# Altium footprint library 2.90-TI标准封装.PcbLib: 35 footprints (part 1 of 3)
Each footprint in its own frame and in the unit in brackets; x right, y up, seen from the top. Pads: shape width x height; smd on the part's side, far side on the other; paste and mask are expansions set on the pad; w line width, h text height; cw(c..) or ccw(c..) is an arc to the next point about the centre after c.
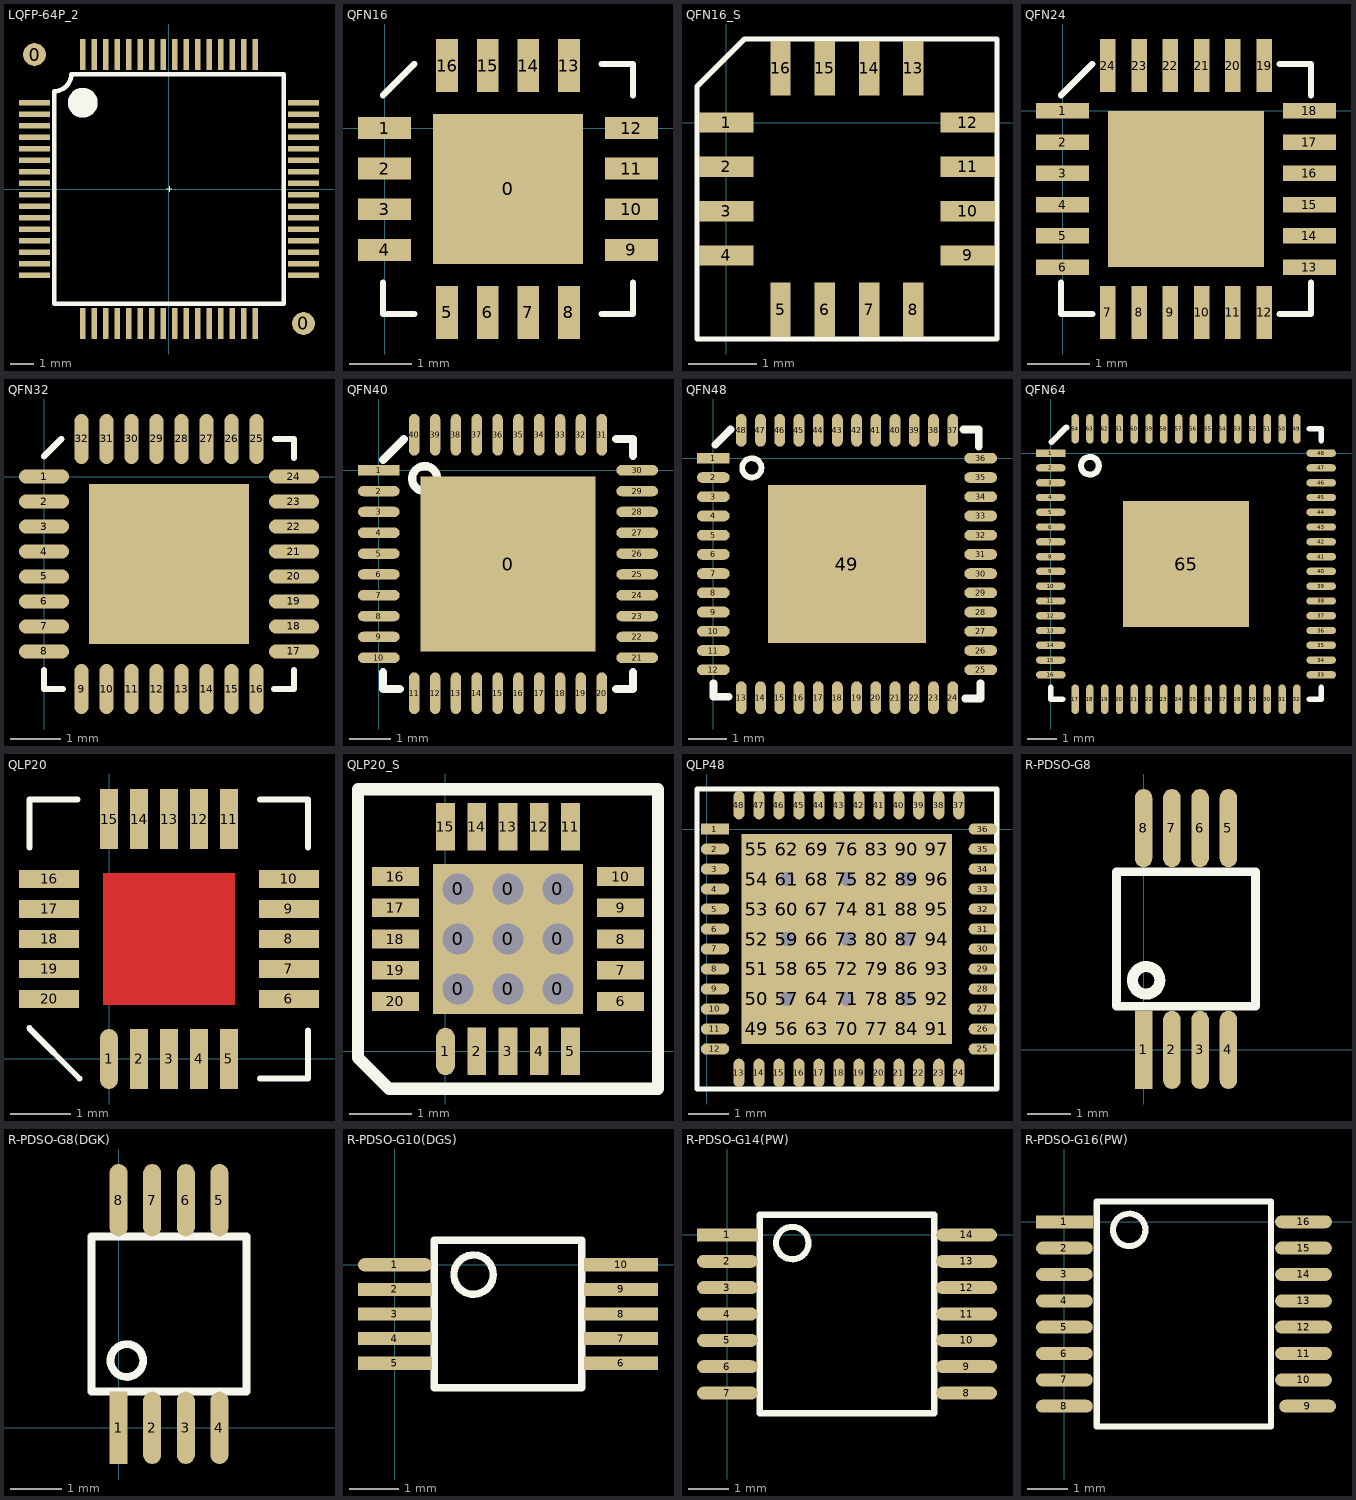
[diagram p0: the footprints below, top view; thin cyan lines are the x and y axes]

## LQFP-64P_2 [mm] "[ PCBѧϰȺ514746572 ]"
pads (66):
  round 1 smd: 0(-5.85,5.85) 0(5.85,-5.85)
  rect 1.35x0.25 smd: 1(-5.85,3.75) 2(-5.85,3.25) 3(-5.85,2.75) 4(-5.85,2.25) 5(-5.85,1.75) 6(-5.85,1.25) 7(-5.85,0.75) 8(-5.85,0.25) 9(-5.85,-0.25) 10(-5.85,-0.75) 11(-5.85,-1.25) 12(-5.85,-1.75) 13(-5.85,-2.25) 14(-5.85,-2.75) 15(-5.85,-3.25) 16(-5.85,-3.75) 33(5.85,-3.75) 34(5.85,-3.25) 35(5.85,-2.75) 36(5.85,-2.25) 37(5.85,-1.75) 38(5.85,-1.25) 39(5.85,-0.75) 40(5.85,-0.25) 41(5.85,0.25) 42(5.85,0.75) 43(5.85,1.25) 44(5.85,1.75) 45(5.85,2.25) 46(5.85,2.75) 47(5.85,3.25) 48(5.85,3.75)
  rect 0.25x1.35 smd: 17(-3.75,-5.85) 18(-3.25,-5.85) 19(-2.75,-5.85) 20(-2.25,-5.85) 21(-1.75,-5.85) 22(-1.25,-5.85) 23(-0.75,-5.85) 24(-0.25,-5.85) 25(0.25,-5.85) 26(0.75,-5.85) 27(1.25,-5.85) 28(1.75,-5.85) 29(2.25,-5.85) 30(2.75,-5.85) 31(3.25,-5.85) 32(3.75,-5.85) 49(3.75,5.85) 50(3.25,5.85) 51(2.75,5.85) 52(2.25,5.85) 53(1.75,5.85) 54(1.25,5.85) 55(0.75,5.85) 56(0.25,5.85) 57(-0.25,5.85) 58(-0.75,5.85) 59(-1.25,5.85) 60(-1.75,5.85) 61(-2.25,5.85) 62(-2.75,5.85) 63(-3.25,5.85) 64(-3.75,5.85)
Top Overlay:
  circle w0.7: c-3.75,3.75 r0.3
  lines w0.001: -0.12,0 0.12,0 ; 0,-0.12 0,0.12
  lines w0.2: -5,-5 5,-5 5,5 -4.25,5 cw(c-5,5) -5,4.25 -5,-5

## QFN16 [mm] "[ PCBѧϰȺ514746572 ]"
pads (17):
  rect 2.4x2.4 smd: 0(1.975,-0.975)
  rect 0.85x0.35 smd: 1(0,0) 2(0,-0.65) 3(0,-1.3) 4(0,-1.95) 9(3.95,-1.95) 10(3.95,-1.3) 11(3.95,-0.65) 12(3.95,0)
  rect 0.35x0.85 smd: 5(1,-2.95) 6(1.65,-2.95) 7(2.3,-2.95) 8(2.95,-2.95) 13(2.95,1) 14(2.3,1) 15(1.65,1) 16(1,1)
Top Overlay:
  lines w0.1: -0.025,-2.475 -0.025,-2.975 0.475,-2.975 ; -0.025,0.525 0.475,1.025 ; 3.475,-2.975 3.975,-2.975 3.975,-2.475 ; 3.475,1.025 3.975,1.025 3.975,0.525

## QFN16_S [mm] "[ PCBѧϰȺ514746572 ]"
pads (16):
  rect 0.8x0.3 smd: 1(0,0) 2(0,-0.65) 3(0,-1.3) 4(0,-1.95) 9(3.542,-1.95) 10(3.542,-1.3) 11(3.542,-0.65) 12(3.542,0)
  rect 0.3x0.8 smd: 5(0.795,-2.744) 6(1.445,-2.744) 7(2.095,-2.744) 8(2.745,-2.744) 13(2.745,0.797) 14(2.095,0.797) 15(1.445,0.797) 16(0.795,0.797)
Top Overlay:
  lines w0.076: -0.43,-3.175 -0.43,0.528 0.268,1.225 3.97,1.225 3.97,-3.175 -0.43,-3.175

## QFN24 [mm] "[ PCBѧϰȺ514746572 ]"
pads (25):
  rect 0.85x0.25 smd: 1(0,0) 2(0,-0.5) 3(0,-1) 4(0,-1.5) 5(0,-2) 6(0,-2.5) 13(3.95,-2.5) 14(3.95,-2) 15(3.95,-1.5) 16(3.95,-1) 17(3.95,-0.5) 18(3.95,0)
  rect 0.25x0.85 smd: 7(0.725,-3.225) 8(1.225,-3.225) 9(1.725,-3.225) 10(2.225,-3.225) 11(2.725,-3.225) 12(3.225,-3.225) 19(3.225,0.725) 20(2.725,0.725) 21(2.225,0.725) 22(1.725,0.725) 23(1.225,0.725) 24(0.725,0.725)
  rect 2.5x2.5 smd: ""(1.975,-1.25)
Top Overlay:
  lines w0.1: -0.025,-2.75 -0.025,-3.25 0.475,-3.25 ; -0.025,0.25 0.475,0.75 ; 3.475,-3.25 3.975,-3.25 3.975,-2.75 ; 3.475,0.75 3.975,0.75 3.975,0.25

## QFN32 [mm] "[ PCBѧϰȺ514746572 ]"
pads (33):
  oval 1x0.28 smd: 1(0,0) 2(0,-0.5) 3(0,-1) 4(0,-1.5) 5(0,-2) 6(0,-2.5) 7(0,-3) 8(0,-3.5) 17(5,-3.5) 18(5,-3) 19(5,-2.5) 20(5,-2) 21(5,-1.5) 22(5,-1) 23(5,-0.5) 24(5,0)
  oval 0.28x1 smd: 9(0.75,-4.25) 10(1.25,-4.25) 11(1.75,-4.25) 12(2.25,-4.25) 13(2.75,-4.25) 14(3.25,-4.25) 15(3.75,-4.25) 16(4.25,-4.25) 25(4.25,0.75) 26(3.75,0.75) 27(3.25,0.75) 28(2.75,0.75) 29(2.25,0.75) 30(1.75,0.75) 31(1.25,0.75) 32(0.75,0.75)
  rect 3.2x3.2 smd: ""(2.5,-1.75)
Top Overlay:
  lines w0.127: 0,-3.869 0,-4.25 0.381,-4.25 ; 0,0.404 0.346,0.75 ; 4.6,-4.25 5,-4.25 5,-3.869 ; 4.619,0.75 5,0.75 5,0.369

## QFN40 [mm] "[ PCBѧϰȺ514746572 ]"
pads (41):
  rect 4.2x4.2 smd: 0(3.1,-2.25)
  rect 1x0.25 smd: 1(0,0)
  oval 1x0.25 smd: 2(0,-0.5) 3(0,-1) 4(0,-1.5) 5(0,-2) 6(0,-2.5) 7(0,-3) 8(0,-3.5) 9(0,-4) 10(0,-4.5) 21(6.2,-4.5) 22(6.2,-4) 23(6.2,-3.5) 24(6.2,-3) 25(6.2,-2.5) 26(6.2,-2) 27(6.2,-1.5) 28(6.2,-1) 29(6.2,-0.5) 30(6.2,0)
  oval 0.25x1 smd: 11(0.85,-5.35) 12(1.35,-5.35) 13(1.85,-5.35) 14(2.35,-5.35) 15(2.85,-5.35) 16(3.35,-5.35) 17(3.85,-5.35) 18(4.35,-5.35) 19(4.85,-5.35) 20(5.35,-5.35) 31(5.35,0.85) 32(4.85,0.85) 33(4.35,0.85) 34(3.85,0.85) 35(3.35,0.85) 36(2.85,0.85) 37(2.35,0.85) 38(1.85,0.85) 39(1.35,0.85) 40(0.85,0.85)
Top Overlay:
  circle w0.2: c1.1,-0.2 r0.3
  lines w0.2: 0.1,-4.85 0.1,-5.25 0.5,-5.25 ; 0.1,0.25 0.6,0.75 ; 5.7,-5.25 6.1,-5.25 6.1,-4.85 ; 5.7,0.75 6.1,0.75 6.1,0.35

## QFN48 [mm] "[ PCBѧϰȺ514746572 ]"
pads (75):
  rect 0x0 all layers, no hole: 1(-0.075,0) 2(-0.075,-0.5) 3(-0.075,-1) 4(-0.075,-1.5) 5(-0.075,-2) 6(-0.075,-2.5) 7(-0.075,-3) 8(-0.075,-3.5) 9(-0.075,-4) 10(-0.075,-4.5) 14(1.215,-6.29) 15(1.715,-6.29) 17(2.715,-6.29) 18(3.215,-6.29) 19(3.715,-6.29) 20(4.215,-6.29) 21(4.715,-6.29) 22(5.215,-6.29) 23(5.715,-6.29) 24(6.215,-6.29) 25(7.005,-5.5) 26(7.005,-5)
  rect 0.85x0.28 smd: 1(0,0)
  oval 0.85x0.28 smd: 2(0,-0.5) 3(0,-1) 4(0,-1.5) 5(0,-2) 6(0,-2.5) 7(0,-3) 8(0,-3.5) 9(0,-4) 10(0,-4.5) 11(0,-5) 12(0,-5.5) 25(6.95,-5.5) 26(6.95,-5) 27(6.95,-4.5) 28(6.95,-4) 29(6.95,-3.5) 30(6.95,-3) 31(6.95,-2.5) 32(6.95,-2) 33(6.95,-1.5) 34(6.95,-1) 35(6.95,-0.5) 36(6.95,0)
  round 0 all layers, no hole: 11(-0.075,-5) 12(-0.075,-5.5) 13(0.715,-6.29) 16(2.215,-6.29)
  oval 0.28x0.85 smd: 13(0.725,-6.225) 14(1.225,-6.225) 15(1.725,-6.225) 16(2.225,-6.225) 17(2.725,-6.225) 18(3.225,-6.225) 19(3.725,-6.225) 20(4.225,-6.225) 21(4.725,-6.225) 22(5.225,-6.225) 23(5.725,-6.225) 24(6.225,-6.225) 37(6.225,0.725) 38(5.725,0.725) 39(5.225,0.725) 40(4.725,0.725) 41(4.225,0.725) 42(3.725,0.725) 43(3.225,0.725) 44(2.725,0.725) 45(2.225,0.725) 46(1.725,0.725) 47(1.225,0.725) 48(0.725,0.725)
  rect 4.1x4.1 smd: 49(3.475,-2.75)
Top Overlay:
  circle w0.15: c1,-0.25 r0.25
  lines w0.203: 0,-5.85 0,-6.2 0.4,-6.2 ; 0.05,0.35 0.45,0.75 ; 6.5,0.75 6.9,0.75 6.9,0.3 ; 6.55,-6.25 6.95,-6.25 6.95,-5.85

## QFN64 [mm] "[ PCBѧϰȺ514746572 ]"
pads (65):
  rect 1x0.25 smd: 1(0,0)
  oval 1x0.25 smd: 2(0,-0.5) 3(0,-1) 4(0,-1.5) 5(0,-2) 6(0,-2.5) 7(0,-3) 8(0,-3.5) 9(0,-4) 10(0,-4.5) 11(0,-5) 12(0,-5.5) 13(0,-6) 14(0,-6.5) 15(0,-7) 16(0,-7.5) 33(9.15,-7.5) 34(9.15,-7) 35(9.15,-6.5) 36(9.15,-6) 37(9.15,-5.5) 38(9.15,-5) 39(9.15,-4.5) 40(9.15,-4) 41(9.15,-3.5) 42(9.15,-3) 43(9.15,-2.5) 44(9.15,-2) 45(9.15,-1.5) 46(9.15,-1) 47(9.15,-0.5) 48(9.15,0)
  oval 0.25x1 smd: 17(0.825,-8.325) 18(1.325,-8.325) 19(1.825,-8.325) 20(2.325,-8.325) 21(2.825,-8.325) 22(3.325,-8.325) 23(3.825,-8.325) 24(4.325,-8.325) 25(4.825,-8.325) 26(5.325,-8.325) 27(5.825,-8.325) 28(6.325,-8.325) 29(6.825,-8.325) 30(7.325,-8.325) 31(7.825,-8.325) 32(8.325,-8.325) 49(8.325,0.825) 50(7.825,0.825) 51(7.325,0.825) 52(6.825,0.825) 53(6.325,0.825) 54(5.825,0.825) 55(5.325,0.825) 56(4.825,0.825) 57(4.325,0.825) 58(3.825,0.825) 59(3.325,0.825) 60(2.825,0.825) 61(2.325,0.825) 62(1.825,0.825) 63(1.325,0.825) 64(0.825,0.825)
  rect 4.25x4.25 smd: 65(4.575,-3.75)
Top Overlay:
  circle w0.2: c1.325,-0.425 r0.3
  lines w0.2: 0,-7.925 0,-8.325 0.4,-8.325 ; 8.75,-8.325 9.15,-8.325 9.15,-7.925 ; 8.75,0.825 9.15,0.825 9.15,0.425
  lines w0.203: 0.025,0.375 0.525,0.875

## QLP20 [mm] "[ PCBѧϰȺ514746572 ]"
pads (20):
  oval 0.3x1 smd: 1(0,0)
  rect 0.3x1 smd: 2(0.5,0) 3(1,0) 4(1.5,0) 5(2,0) 11(2,4) 12(1.5,4) 13(1,4) 14(0.5,4) 15(0,4)
  rect 1x0.3 smd: 6(3,1) 7(3,1.5) 8(3,2) 9(3,2.5) 10(3,3) 16(-1,3) 17(-1,2.5) 18(-1,2) 19(-1,1.5) 20(-1,1)
Top Layer:
  rectangle: -0.1,0.9 2.1,3.1
Top Overlay:
  lines w0.1: -1.329,0.514 -0.491,-0.324 ; -1.329,3.524 -1.329,4.324 -0.529,4.324 ; 2.519,-0.324 3.319,-0.324 3.319,0.476 ; 2.519,4.324 3.319,4.324 3.319,3.524

## QLP20_S [mm] "[ PCBѧϰȺ514746572 ]"
pads (29):
  rect 0.8x0.8 hole 0.5: 0(0.2,1) 0(0.2,1.8) 0(0.2,2.6) 0(1,1) 0(1,1.8) 0(1,2.6) 0(1.8,1) 0(1.8,1.8) 0(1.8,2.6)
  oval 0.3x0.76 smd: 1(0,0)
  rect 0.3x0.76 smd: 2(0.5,0) 3(1,0) 4(1.5,0) 5(2,0) 11(2,3.6) 12(1.5,3.6) 13(1,3.6) 14(0.5,3.6) 15(0,3.6)
  rect 0.76x0.3 smd: 6(2.8,0.8) 7(2.8,1.3) 8(2.8,1.8) 9(2.8,2.3) 10(2.8,2.8) 16(-0.8,2.8) 17(-0.8,2.3) 18(-0.8,1.8) 19(-0.8,1.3) 20(-0.8,0.8)
Top Overlay:
  lines w0.2: -1.4,-0.1 -0.9,-0.6 3.4,-0.6 3.4,4.2 -1.4,4.2 -1.4,-0.1

## QLP48 [mil] "[ PCBѧϰȺ514746572 ]"
pads (123):
  rect 0x0 all layers, no hole: 1(0,0) 2(0,-19.69) 3(0,-39.37) 4(0,-59.06) 5(0,-78.74) 6(0,-98.43) 7(0,-118.11) 8(0,-137.8) 9(0,-157.48) 10(0,-177.17) 14(50.79,-247.64) 15(70.47,-247.64) 17(109.84,-247.64) 18(129.53,-247.64) 19(149.21,-247.64) 20(168.9,-247.64) 21(188.58,-247.64) 22(208.27,-247.64) 23(227.95,-247.64) 24(247.64,-247.64) 25(278.74,-216.54) 26(278.74,-196.85)
  rect 28x11 smd: 1(7.87,0)
  oval 28x11 smd: 2(7.87,-19.68) 3(7.87,-39.37) 4(7.87,-59.05) 5(7.87,-78.74) 6(7.87,-98.42) 7(7.87,-118.11) 8(7.87,-137.79) 9(7.87,-157.48) 10(7.87,-177.16) 11(7.87,-196.85) 12(7.87,-216.53) 25(271.65,-216.53) 26(271.65,-196.85) 27(271.65,-177.16) 28(271.65,-157.48) 29(271.65,-137.79) 30(271.65,-118.11) 31(271.65,-98.42) 32(271.65,-78.74) 33(271.65,-59.05) 34(271.65,-39.37) 35(271.65,-19.68) 36(271.65,0)
  round 0 all layers, no hole: 11(0,-196.85) 12(0,-216.54) 13(31.1,-247.64) 16(90.16,-247.64)
  oval 11x28 smd: 13(31.5,-240.16) 14(51.18,-240.16) 15(70.87,-240.16) 16(90.55,-240.16) 17(110.24,-240.16) 18(129.92,-240.16) 19(149.61,-240.16) 20(169.29,-240.16) 21(188.98,-240.16) 22(208.66,-240.16) 23(228.35,-240.16) 24(248.03,-240.16) 37(248.03,23.62) 38(228.35,23.62) 39(208.66,23.62) 40(188.98,23.62) 41(169.29,23.62) 42(149.61,23.62) 43(129.92,23.62) 44(110.24,23.62) 45(90.55,23.62) 46(70.87,23.62) 47(51.18,23.62) 48(31.5,23.62)
  rect 30x30 smd: 49(49.21,-196.85) 50(49.21,-167.32) 51(49.21,-137.8) 52(49.21,-108.27) 53(49.21,-78.74) 54(49.21,-49.21) 55(49.21,-19.69) 56(78.74,-196.85) 58(78.74,-137.8) 60(78.74,-78.74) 62(78.74,-19.69) 63(108.27,-196.85) 64(108.27,-167.32) 65(108.27,-137.8) 66(108.27,-108.27) 67(108.27,-78.74) 68(108.27,-49.21) 69(108.27,-19.69) 70(137.8,-196.85) 72(137.8,-137.8) 74(137.8,-78.74) 76(137.8,-19.69) 77(167.32,-196.85) 78(167.32,-167.32) 79(167.32,-137.8) 80(167.32,-108.27) 81(167.32,-78.74) 82(167.32,-49.21) 83(167.32,-19.69) 84(196.85,-196.85) 86(196.85,-137.8) 88(196.85,-78.74) 90(196.85,-19.69) 91(226.38,-196.85) 92(226.38,-167.32) 93(226.38,-137.8) 94(226.38,-108.27) 95(226.38,-78.74) 96(226.38,-49.21) 97(226.38,-19.69)
  rect 30x30 hole 14: 57(78.74,-167.32) 59(78.74,-108.27) 61(78.74,-49.21) 71(137.8,-167.32) 73(137.8,-108.27) 75(137.8,-49.21) 85(196.85,-167.32) 87(196.85,-108.27) 89(196.85,-49.21)
Top Overlay:
  lines w5: -9.84,-255.91 285.43,-255.91 285.43,39.37 -9.84,39.37 -9.84,-255.91

## R-PDSO-G8 [mm] "[ PCBѧϰȺ514746572 ]"
pads (8):
  rect 0.4x1.8 smd: 1(0,0)
  oval 0.4x1.8 smd: 2(0.65,0) 3(1.3,0) 4(1.95,0) 5(1.95,5.1) 6(1.3,5.1) 7(0.65,5.1) 8(0,5.1)
Top Overlay:
  circle w0.254: c0.059,1.6 r0.316
  lines w0.2: -0.625,1 2.575,1 2.575,4.1 -0.625,4.1 -0.625,1

## R-PDSO-G8(DGK) [mm] "[ PCBѧϰȺ514746572 ]"
pads (8):
  rect 0.35x1.4 smd: 1(0,0)
  oval 0.35x1.4 smd: 2(0.65,0) 3(1.3,0) 4(1.95,0) 5(1.95,4.4) 6(1.3,4.4) 7(0.65,4.4) 8(0,4.4)
Top Overlay:
  circle w0.15: c0.159,1.3 r0.316
  lines w0.15: -0.525,0.7 -0.525,3.7 2.475,3.7 2.475,0.7 -0.525,0.7

## R-PDSO-G10(DGS) [mm] "[ PCBѧϰȺ514746572 ]"
pads (10):
  oval 1.5x0.27 smd: 1(0,0)
  rect 1.5x0.27 smd: 2(0,-0.5) 3(0,-1) 4(0,-1.5) 5(0,-2) 6(4.6,-2) 7(4.6,-1.5) 8(4.6,-1) 9(4.6,-0.5) 10(4.6,0)
Top Overlay:
  circle w0.15: c1.6,-0.2 r0.4
  lines w0.152: 0.8,-2.5 3.8,-2.5 3.8,0.5 0.8,0.5 0.8,-2.5

## R-PDSO-G14(PW) [mm] "[ PCBѧϰȺ514746572 ]"
pads (14):
  rect 1.5x0.32 smd: 1(0,0)
  oval 1.5x0.32 smd: 2(0,-0.65) 3(0,-1.3) 4(0,-1.95) 5(0,-2.6) 6(0,-3.25) 7(0,-3.9) 8(5.9,-3.9) 9(5.9,-3.25) 10(5.9,-2.6) 11(5.9,-1.95) 12(5.9,-1.3) 13(5.9,-0.65) 14(5.9,0)
Top Overlay:
  circle w0.15: c1.6,-0.2 r0.4
  lines w0.152: 5.093,-4.4 0.8,-4.4 0.8,0.5 5.1,0.5 5.1,-4.4

## R-PDSO-G16(PW) [mm] "[ PCBѧϰȺ514746572 ]"
pads (16):
  rect 1.4x0.32 smd: 1(0,0)
  oval 1.4x0.32 smd: 2(0,-0.65) 3(0,-1.3) 4(0,-1.95) 5(0,-2.6) 6(0,-3.25) 7(0,-3.9) 8(0,-4.55) 9(6,-4.55) 10(5.9,-3.9) 11(5.9,-3.25) 12(5.9,-2.6) 13(5.9,-1.95) 14(5.9,-1.3) 15(5.9,-0.65) 16(5.9,0)
Top Overlay:
  circle w0.15: c1.6,-0.2 r0.4
  lines w0.152: 5.093,-5.05 0.8,-5.05 0.8,0.5 5.1,0.5 5.1,-5.05